# Altium footprint library NanoEEG_v2_MCU.PcbLib: 26 footprints (part 2 of 2)
Each footprint in its own frame and in the unit in brackets; x right, y up, seen from the top. Pads: shape width x height; smd on the part's side, far side on the other; paste and mask are expansions set on the pad; w line width, h text height; cw(c..) or ccw(c..) is an arc to the next point about the centre after c.
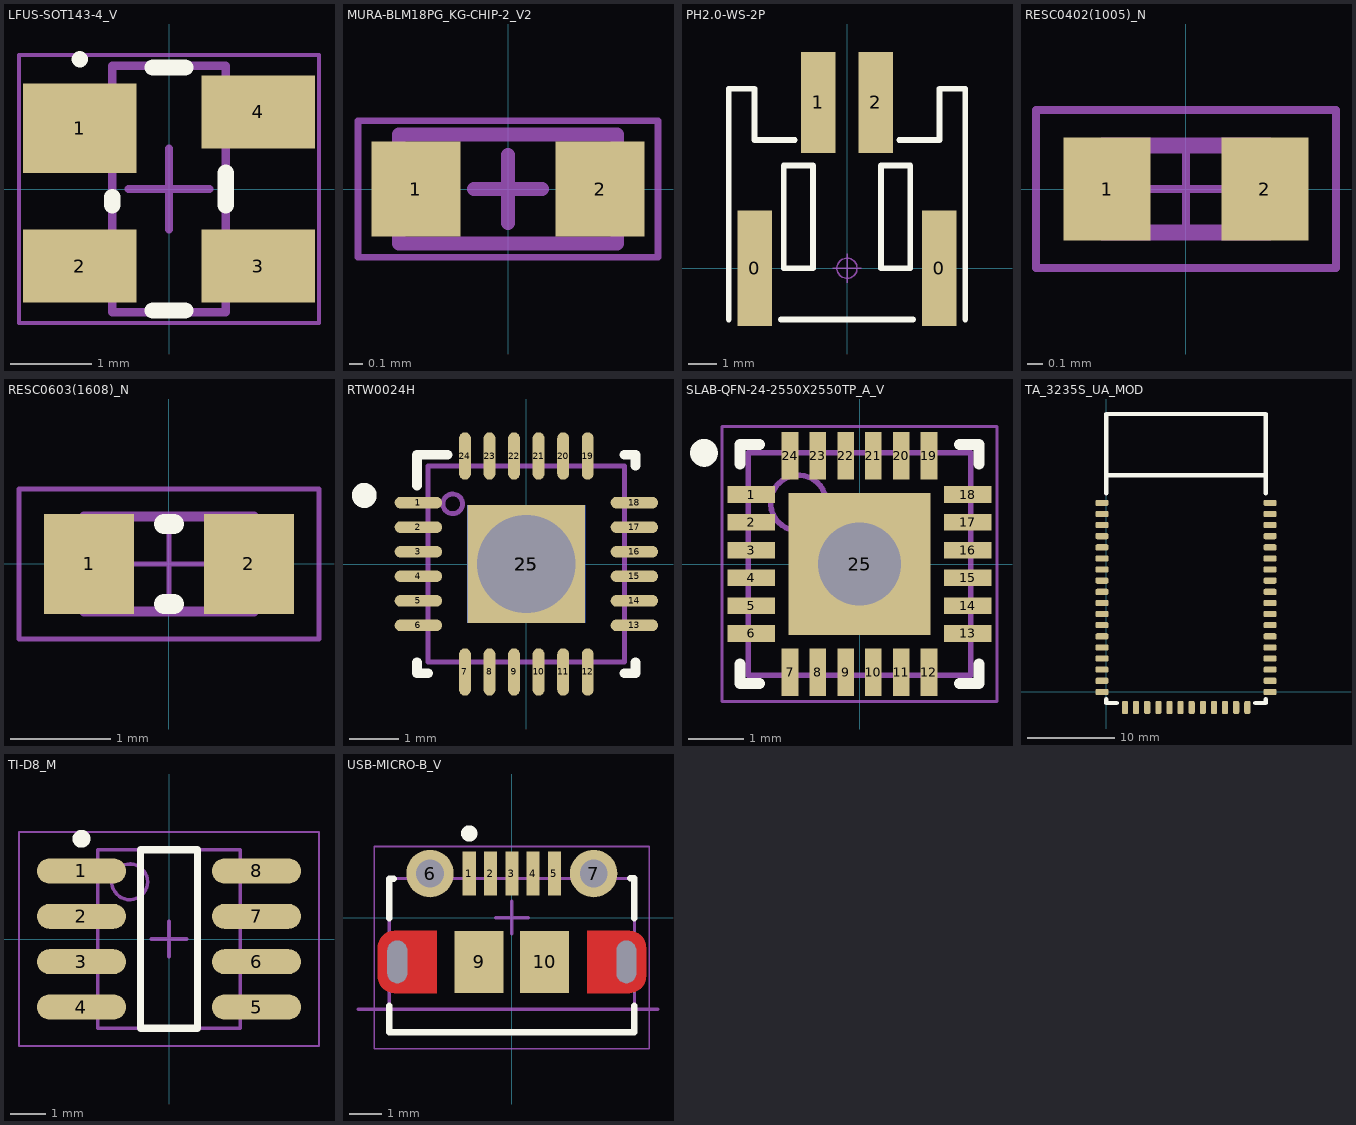
[diagram p1: the footprints below, top view; thin cyan lines are the x and y axes]

## LFUS-SOT143-4_V [mm]
pads (4):
  rect 1.4x1.1 smd: 1(-1.1,0.75)
  rect 1.4x0.9 smd: 2(-1.1,-0.95) 3(1.1,-0.95) 4(1.1,0.95)
Top Overlay:
  circle w0.1: c-1.1,1.6 r0.05
  lines w0.2: -0.7,-0.2 -0.7,-0.1 ; -0.2,-1.5 0.2,-1.5 ; -0.2,1.5 0.2,1.5 ; 0.7,-0.2 0.7,0.2
Mechanical 13:
  lines w0.1: -0.7,-1.52 0.7,-1.52 0.7,1.52 -0.7,1.52 -0.7,-1.52
Mechanical 15:
  lines w0.05: -1.85,-1.65 1.85,-1.65 1.85,1.65 -1.85,1.65 -1.85,-1.65
  lines w0.1: -0.5,0 0.5,0 ; 0,-0.5 0,0.5
3D body: height 1.22, standoff 0.05, extent -0.7,-1.52 0.7,1.52

## MURA-BLM18PG_KG-CHIP-2_V2 [mm]
pads (2):
  rect 0.65x0.7 smd: 1(-0.675,0) 2(0.675,0)
Mechanical 13:
  lines w0.1: -0.8,-0.4 -0.8,0.4 0.8,0.4 0.8,-0.4 -0.8,-0.4
Mechanical 15:
  lines w0.05: -1.1,-0.5 1.1,-0.5 1.1,0.5 -1.1,0.5 -1.1,-0.5
  lines w0.1: -0.25,0 0.25,0 ; 0,-0.25 0,0.25
3D body: height 0.95, standoff 0, extent -0.8,-0.4 0.8,0.4

## PH2.0-WS-2P [mm]
pads (4):
  rect 1.2x4 smd: 0(-3.2,-0.006) 0(3.2,-0.006)
  rect 1.2x3.5 smd: 1(-1,5.744) 2(1,5.744)
Top Overlay:
  lines w0.2: -4.096,-1.778 -4.096,6.223 -3.207,6.223 -3.207,4.445 -1.81,4.445 ; -2.286,-1.778 2.286,-1.778 ; 1.81,4.445 3.207,4.445 3.207,6.223 4.096,6.223 4.096,-1.778 ; -2.191,0 -2.191,3.556 -1.175,3.556 -1.175,0 -2.191,0 ; 1.175,0 1.175,3.556 2.191,3.556 2.191,0 1.175,0
Mechanical 15:
  circle w0.05: c0,0 r0.35
  lines w0.05: -0.5,0 0.5,0 ; 0,-0.5 0,0.5
3D body "PH2.0 SMD-W-2P.STEP": height 5.55, standoff 0.05, extent -4,-1.65 4,6.95

## RESC0402(1005)_N [mm]
pads (2):
  rect 0.55x0.65 smd: 1(-0.5,0) 2(0.5,0)
Mechanical 13:
  lines w0.1: -0.525,-0.275 0.525,-0.275 0.525,0.275 -0.525,0.275 -0.525,-0.275
Mechanical 15:
  lines w0.05: -0.275,0 0.275,0 ; 0,-0.275 0,0.275 ; -0.95,-0.5 0.95,-0.5 0.95,0.5 -0.95,0.5 -0.95,-0.5
3D body: height 0.4, standoff 0, extent -0.525,-0.275 -0.3,0.275
3D body: height 0.4, standoff 0, extent -0.3,-0.275 0.3,0.275
3D body: height 0.4, standoff 0, extent 0.3,-0.275 0.525,0.275

## RESC0603(1608)_N [mm]
pads (2):
  rect 0.9x1 smd: 1(-0.8,0) 2(0.8,0)
Top Overlay:
  lines w0.2: -0.05,-0.4 0.05,-0.4 ; -0.05,0.4 0.05,0.4
Mechanical 13:
  lines w0.1: -0.85,-0.475 0.85,-0.475 0.85,0.475 -0.85,0.475 -0.85,-0.475
Mechanical 15:
  lines w0.05: -0.475,0 0.475,0 ; 0,-0.475 0,0.475 ; -1.5,-0.75 1.5,-0.75 1.5,0.75 -1.5,0.75 -1.5,-0.75
3D body: height 0.6, standoff 0, extent -0.849,-0.474 -0.58,0.475
3D body: height 0.6, standoff 0, extent -0.58,-0.474 0.581,0.475
3D body: height 0.6, standoff 0, extent 0.581,-0.474 0.85,0.475

## RTW0024H [mm]
pads (27):
  oval 0.965x0.24 smd paste+0 mask+0.051: 1(-2.2,1.25) 2(-2.2,0.75) 3(-2.2,0.25) 4(-2.2,-0.25) 5(-2.2,-0.75) 6(-2.2,-1.25) 13(2.2,-1.25) 14(2.2,-0.75) 15(2.2,-0.25) 16(2.2,0.25) 17(2.2,0.75) 18(2.2,1.25)
  oval 0.24x0.965 smd paste+0 mask+0.051: 7(-1.25,-2.2) 8(-0.75,-2.2) 9(-0.25,-2.2) 10(0.25,-2.2) 11(0.75,-2.2) 12(1.25,-2.2) 19(1.25,2.2) 20(0.75,2.2) 21(0.25,2.2) 22(-0.25,2.2) 23(-0.75,2.2) 24(-1.25,2.2)
  round 2.2 hole 2: 25(0,0)
  rect 2.4x2.4 smd paste-1.337 mask+0.051: 25(0,0)
  rect 2.4x2.4 smd far side paste-1.337 mask+0.051: 25(0,0)
Top Overlay:
  circle w0.254: c-3.302,1.397 r0.127
  lines w0.2: -2.225,-2 -2.225,-2.225 -2,-2.225 ; -2.225,1.6 -2.225,2.225 -1.6,2.225 ; 2,-2.225 2.225,-2.225 2.225,-2 ; 2,2.225 2.225,2.225 2.225,2
Top Paste:
  region: 0.1,-0.1 0.1,-1.288 1.288,-1.288 1.288,-0.1
  region: -0.1,-1.288 -0.1,-0.1 -1.288,-0.1 -1.288,-1.288
  region: -0.1,0.1 -0.1,1.288 -1.288,1.288 -1.288,0.1
  region: 0.1,1.288 0.1,0.1 1.288,0.1 1.288,1.288
Mechanical 13:
  circle w0.1: c-1.5,1.225 r0.2
  lines w0.1: -2,-2 2,-2 2,2 -2,2 -2,-2
3D body: height 0.8, standoff 0, extent -1.842,-1.842 1.842,1.842

## SLAB-QFN-24-2550X2550TP_A_V [mm]
pads (25):
  rect 0.85x0.3 smd: 1(-1.95,1.25) 2(-1.95,0.75) 3(-1.95,0.25) 4(-1.95,-0.25) 5(-1.95,-0.75) 6(-1.95,-1.25) 13(1.95,-1.25) 14(1.95,-0.75) 15(1.95,-0.25) 16(1.95,0.25) 17(1.95,0.75) 18(1.95,1.25)
  rect 0.3x0.85 smd: 7(-1.25,-1.95) 8(-0.75,-1.95) 9(-0.25,-1.95) 10(0.25,-1.95) 11(0.75,-1.95) 12(1.25,-1.95) 19(1.25,1.95) 20(0.75,1.95) 21(0.25,1.95) 22(-0.25,1.95) 23(-0.75,1.95) 24(-1.25,1.95)
  rect 2.55x2.55 smd: 25(0,0)
via 0,0 diameter 2 hole 1.5
Top Overlay:
  circle w0.25: c-2.8,2 r0.125
  lines w0.2: -2.15,-1.8 -2.15,-2.15 -1.8,-2.15 ; -2.15,1.8 -2.15,2.15 -1.8,2.15 ; 1.8,-2.15 2.15,-2.15 2.15,-1.8 ; 1.8,2.15 2.15,2.15 2.15,1.8
Mechanical 13:
  circle w0.1: c-1.1,1.1 r0.5
  lines w0.1: -2,-2 -2,2 2,2 2,-2 -2,-2
Mechanical 15:
  lines w0.05: -2.475,-2.475 -2.475,2.475 2.475,2.475 2.475,-2.475 -2.475,-2.475
  lines w0.1: -0.5,0 0.5,0 ; 0,-0.5 0,0.5
3D body "QFN50P400X400X80_HS-25L.step": height 0.8, standoff 0, extent -2.001,-2.001 2.001,2.001

## TA_3235S_UA_MOD [mm]
pads (48):
  rrect50% 1.5x0.7 smd: 1(-0.5,21.59) 2(-0.5,20.32) 3(-0.5,19.05) 4(-0.5,17.78) 5(-0.5,16.51) 6(-0.5,15.24) 7(-0.5,13.97) 8(-0.5,12.7) 9(-0.5,11.43) 10(-0.5,10.16) 11(-0.5,8.89) 12(-0.5,7.62) 13(-0.5,6.35) 14(-0.5,5.08) 15(-0.5,3.81) 16(-0.5,2.54) 17(-0.5,1.27) 18(-0.5,0) 31(18.7,0) 32(18.7,1.27) 33(18.7,2.54) 34(18.7,3.81) 35(18.7,5.08) 36(18.7,6.35) 37(18.7,7.62) 38(18.7,8.89) 39(18.7,10.16) 40(18.7,11.43) 41(18.7,12.7) 42(18.7,13.97) 43(18.7,15.24) 44(18.7,16.51) 45(18.7,17.78) 46(18.7,19.05) 47(18.7,20.32) 48(18.7,21.59)
  rrect50% 0.7x1.5 smd: 19(2.13,-1.77) 20(3.4,-1.77) 21(4.67,-1.77) 22(5.94,-1.77) 23(7.21,-1.77) 24(8.48,-1.77) 25(9.75,-1.77) 26(11.02,-1.77) 27(12.29,-1.77) 28(13.56,-1.77) 29(14.83,-1.77) 30(16.1,-1.77)
Top Overlay:
  lines w0.5: 0,-0.838 0,-1.27 1.194,-1.27 ; 0,22.682 0,31.73 18.2,31.73 18.2,24.73 ; 0,24.73 18.2,24.73 ; 17.018,-1.27 18.2,-1.27 18.2,-0.838 ; 18.2,22.682 18.2,24.73

## TI-D8_M [mm]
pads (8):
  oval 2.5x0.7 smd: 1(-2.45,1.905) 2(-2.45,0.635) 3(-2.45,-0.635) 4(-2.45,-1.905) 5(2.45,-1.905) 6(2.45,-0.635) 7(2.45,0.635) 8(2.45,1.905)
Top Overlay:
  circle w0.25: c-2.45,2.805 r0.125
  lines w0.2: -0.8,-2.5 0.8,-2.5 0.8,2.5 -0.8,2.5 -0.8,-2.5
Mechanical 13:
  circle w0.1: c-1.1,1.6 r0.5
  lines w0.1: -2,-2.5 2,-2.5 2,2.5 -2,2.5 -2,-2.5
Mechanical 15:
  lines w0.05: -4.2,-3 4.2,-3 4.2,3 -4.2,3 -4.2,-3
  lines w0.1: -0.5,0 0.5,0 ; 0,-0.5 0,0.5
3D body: height 1.75, standoff 0.1, extent -2,-2.5 2,2.5

## USB-MICRO-B_V [mm]
pads (11):
  rect 0.4x1.35 smd: 1(-1.3,1.35) 2(-0.65,1.35) 3(0,1.35) 4(0.65,1.35) 5(1.3,1.35)
  round 1.45 hole 0.85: 6(-2.5,1.35) 7(2.5,1.35)
  rrect50% 0x0 hole 0.6 slot 1.3 at 90 deg: 8(-3.5,-1.35) 11(3.5,-1.35)
  rect 1.5x1.9 smd: 9(-1,-1.35) 10(1,-1.35)
Top Layer:
  circle w0.5: c-3.6,-1.8 r0.25
  circle w0.5: c-3.6,-0.9 r0.25
  region: -3.6,-1.8 -3.6,-0.9 -4.1,-0.9 -4.1,-1.8
  region: 3.6,-0.9 3.6,-1.8 4.1,-1.8 4.1,-0.9
  region: 2.3,-0.4 2.3,-2.3 3.6,-2.3 3.6,-0.4
  region: -2.3,-2.3 -2.3,-0.4 -3.6,-0.4 -3.6,-2.3
  lines w0.5: 3.367,-0.991 ccw(c3.6,-0.9) 3.368,-0.992 ccw(c3.6,-0.9) 3.508,-1.132 ccw(c3.6,-0.9) 3.6,-0.65 ccw(c3.6,-0.9) 3.367,-0.991 ; 3.395,-1.657 ccw(c3.6,-1.8) 3.805,-1.657 ccw(c3.6,-1.8) 3.6,-1.55 ccw(c3.6,-1.8) 3.395,-1.657
Top Overlay:
  circle w0.25: c-1.3,2.575 r0.125
  lines w0.2: -3.745,-2.688 -3.745,-3.5 3.745,-3.5 3.745,-2.688 ; -3.745,-0.012 -3.745,1.195 -3.614,1.195 ; 3.615,1.2 3.745,1.2 3.745,-0.012
Mechanical 1:
  lines w0.1: -4.7,-2.8 4.465,-2.8
  text "PCB EDGE" at -7.989,-3.966 h0.51
Mechanical 13:
  lines w0.1: -3.75,1.2 3.745,1.2 3.745,-3.5 -3.745,-3.5 -3.745,1.195
Mechanical 15:
  lines w0.05: -4.2,-4 4.2,-4 4.2,2.175 -4.2,2.175 -4.2,-4
  lines w0.1: -0.5,0 0.5,0 ; 0,-0.5 0,0.5
3D body "1050170001.stp": height 2.67, standoff -0.63, extent -4.1,-3.9 4.1,1.5